# EAGLE library part KGM-9DOF (library sf-keyglovekit)
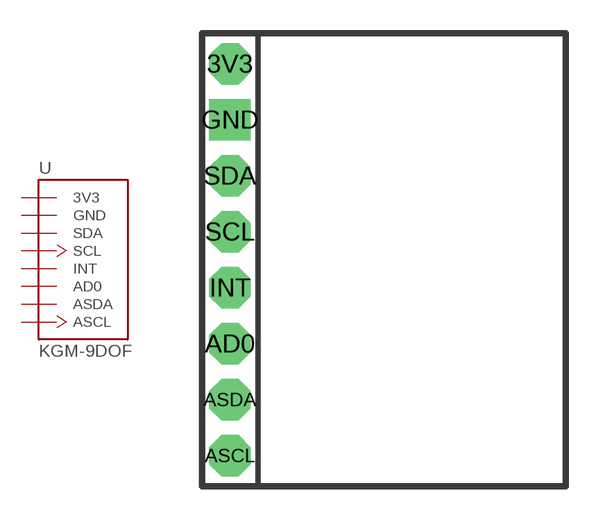
[diagram p2: symbol with the pads of KGM-9DOF; footprint KGM-9DOF]

Designator prefix -

## KGM-9DOF  [KGM-9DOF]
3V3  3V3  pwr
AD0  AD0  in
ASCL  ASCL
ASDA  ASDA
GND  GND  pwr
INT  INT  out
SCL  SCL
SDA  SDA

## Footprint KGM-9DOF (pad centres in mm)
drill 1.016 pad 1.88 octagon: 3V3 1.27,19.177; AD0 1.27,6.477; ASCL 1.27,1.397; ASDA 1.27,3.937; INT 1.27,9.017; SCL 1.27,11.557; SDA 1.27,14.097
drill 1.016 pad 1.88 square: GND 1.27,16.637